# Altium schematic symbol library Resistors.SchLib: 55 symbols
Pins are listed as number, name and electrical type; pins without a type are passive.

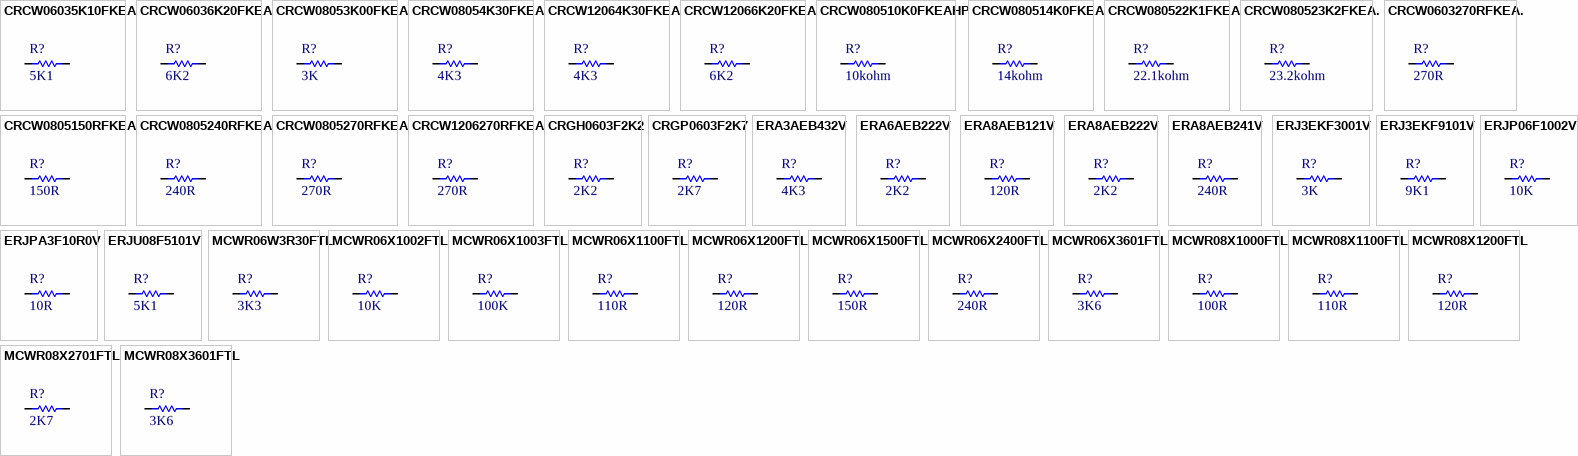
[diagram p0: symbols CRCW06035K10FKEA to MCWR08X3601FTL]

## CRCW06035K10FKEA
designator R?, comment 5K1
RES 5K1, ±1%, 100mW, 75V, 0603 [1608 Metric], Thick Film; Manufacturer: VISHAY; Manufacturer Part Number: CRCW06035K10FKEA; Temperature Coefficient: ± 100ppm/K; Value: 5K1; Supplier 1: Farnell; Supplier Part Number 1: 1469819; Tollerance: ± 1%; Power: 100mW; Voltage: 75V; Package: 0603 [1608 Metric]; Part Type: Thick Film; ComponentLink1Description: Datasheet; ComponentLink1URL: http://www.farnell.com/datasheets/2310790.pdf; Mounting: SMD
footprint RESC1608N (Chip Resistor, Body 1.6x0.8mm, IPC Medium Density)
pins: 1, 2
1 alternate drawing of the same symbol

## CRCW06036K20FKEA
designator R?, comment 6K2
RES 6K2, ±1%, 100mW, 75V, 0603 [1608 Metric], Thick Film; Manufacturer: VISHAY; Manufacturer Part Number: CRCW06036K20FKEA; Temperature Coefficient: ± 100ppm/K; Value: 6K2; Supplier 1: Farnell; Supplier Part Number 1: 2138408; Tollerance: ± 1%; Power: 100mW; Voltage: 75V; Package: 0603 [1608 Metric]; Part Type: Thick Film; ComponentLink1Description: Datasheet; ComponentLink1URL: http://www.farnell.com/datasheets/2310790.pdf; Mounting: SMD
footprint RESC1608N (Chip Resistor, Body 1.6x0.8mm, IPC Medium Density)
pins: 1, 2
1 alternate drawing of the same symbol

## CRCW08053K00FKEA
designator R?, comment 3K
RES 3K, ±1%, 125mW, 150V, 0805 [2012 Metric], Thick Film; Manufacturer: VISHAY; Manufacturer Part Number: CRCW08053K00FKEA; Temperature Coefficient: ± 100ppm/K; Value: 3K; Supplier 1: Farnell; Supplier Part Number 1: 1469908; Tollerance: ± 1%; Power: 125mW; Voltage: 150V; Package: 0805 [2012 Metric]; Part Type: Thick Film; ComponentLink1Description: Datasheet; ComponentLink1URL: http://www.farnell.com/datasheets/2310790.pdf; Mounting: SMD
footprint RESC2012N (Chip Resistor, Body 2.0x1.3mm, IPC Medium Density)
pins: 1, 2
1 alternate drawing of the same symbol

## CRCW08054K30FKEA
designator R?, comment 4K3
RES 4K3, ±1%, 125mW, 150V, 0805 [2012 Metric], Thick Film; Manufacturer: VISHAY; Manufacturer Part Number: CRCW08054K30FKEA; Temperature Coefficient: ± 100ppm/K; Value: 4K3; Supplier 1: Farnell; Supplier Part Number 1: 2138959; Tollerance: ± 1%; Power: 125mW; Voltage: 150V; Package: 0805 [2012 Metric]; Part Type: Thick Film; ComponentLink1Description: Datasheet; ComponentLink1URL: http://www.farnell.com/datasheets/2310790.pdf; Mounting: SMD
footprint RESC2012N (Chip Resistor, Body 2.0x1.3mm, IPC Medium Density)
pins: 1, 2
1 alternate drawing of the same symbol

## CRCW12064K30FKEA
designator R?, comment 4K3
RES 4K3, ±1%, 250mW, 200V, 1206 [3216 Metric], Thick Film; Manufacturer: VISHAY; Manufacturer Part Number: CRCW12064K30FKEA; Temperature Coefficient: ± 100ppm/K; Value: 4K3; Supplier 1: Farnell; Supplier Part Number 1: 1653140; Tollerance: ± 1%; Power: 250mW; Voltage: 200V; Package: 1206 [3216 Metric]; Part Type: Thick Film; ComponentLink1Description: Datasheet; ComponentLink1URL: http://www.farnell.com/datasheets/2310790.pdf; Mounting: SMD
footprint RESC3216N (Chip Resistor, Body 3.2x1.6mm, IPC Medium Density)
pins: 1, 2
1 alternate drawing of the same symbol

## CRCW12066K20FKEA
designator R?, comment 6K2
RES 6K2, ±1%, 250mW, 200V, 1206 [3216 Metric], Thick Film; Manufacturer: VISHAY; Manufacturer Part Number: CRCW12066K20FKEA; Temperature Coefficient: ± 100ppm/K; Value: 6K2; Supplier 1: Farnell; Supplier Part Number 1: 2139493; Tollerance: ± 1%; Power: 250mW; Voltage: 200V; Package: 1206 [3216 Metric]; Part Type: Thick Film; ComponentLink1Description: Datasheet; ComponentLink1URL: http://www.farnell.com/datasheets/2310790.pdf; Mounting: SMD
footprint RESC3216N (Chip Resistor, Body 3.2x1.6mm, IPC Medium Density)
pins: 1, 2
1 alternate drawing of the same symbol

## CRCW080510K0FKEAHP
designator R?, comment 10kohm
RES 10K, ±1%, 500mW, 150V, 0805 [2012 Metric], Thick Film; Manufacturer: VISHAY; Manufacturer Part Number: CRCW080510K0FKEAHP; Temperature Coefficient: ± 100ppm/K; Value: 10kohm; Supplier 1: Farnell; Supplier Part Number 1: 1738972; Tollerance: ± 1%; Power: 500mW; Voltage: 150V; Package: 0805 [2012 Metric]; ComponentLink1Description: Datasheet; ComponentLink1URL: http://www.farnell.com/datasheets/2339608.pdf; Mounting: SMD
footprint RESC2012N (Chip Resistor, Body 2.0x1.3mm, IPC Medium Density)
pins: 1, 2
1 alternate drawing of the same symbol

## CRCW080514K0FKEA
designator R?, comment 14kohm
RES 14K, ±1%, 125mW, 150V, 0805 [2012 Metric], Thick Film; Manufacturer: VISHAY; Manufacturer Part Number: CRCW080514K0FKEA; Temperature Coefficient: ± 100ppm/K; Value: 14kohm; Supplier 1: Farnell; Supplier Part Number 1: 1469871; Tollerance: ± 1%; Power: 125mW; Voltage: 150V; Package: 0805 [2012 Metric]; ComponentLink1Description: Datasheet; ComponentLink1URL: http://www.farnell.com/datasheets/2310790.pdf; Mounting: SMD
footprint RESC2012N (Chip Resistor, Body 2.0x1.3mm, IPC Medium Density)
pins: 1, 2
1 alternate drawing of the same symbol

## CRCW080522K1FKEA
designator R?, comment 22.1kohm
RES 22.1K, ±1%, 125mW, 150V, 0805 [2012 Metric], Thick Film; Manufacturer: VISHAY; Manufacturer Part Number: CRCW080522K1FKEA; Temperature Coefficient: ± 100ppm/K; Value: 22.1kohm; Supplier 1: Farnell; Supplier Part Number 1: 1469898; Tollerance: ± 1%; Power: 125mW; Voltage: 150V; Package: 0805 [2012 Metric]; ComponentLink1Description: Datasheet; ComponentLink1URL: http://www.farnell.com/datasheets/2310790.pdf; Mounting: SMD
footprint RESC2012N (Chip Resistor, Body 2.0x1.3mm, IPC Medium Density)
pins: 1, 2
1 alternate drawing of the same symbol

## CRCW080523K2FKEA.
designator R?, comment 23.2kohm
RES 23.2K, ±1%, 125mW, 150V, 0805 [2012 Metric], Thick Film; Manufacturer: VISHAY; Manufacturer Part Number: CRCW080523K2FKEA.; Temperature Coefficient: ± 100ppm/K; Value: 23.2kohm; Supplier 1: Farnell; Supplier Part Number 1: 2138985; Tollerance: ± 1%; Power: 125mW; Voltage: 150V; Package: 0805 [2012 Metric]; ComponentLink1Description: Datasheet; ComponentLink1URL: http://www.farnell.com/datasheets/2310790.pdf; Mounting: SMD
footprint RESC2012N (Chip Resistor, Body 2.0x1.3mm, IPC Medium Density)
pins: 1, 2
1 alternate drawing of the same symbol

## CRCW0603270RFKEA.
designator R?, comment 270R
RES 270R, ±1%, 100mW, 75V, 0603 [1608 Metric], Thick Film; Manufacturer: VISHAY; Manufacturer Part Number: CRCW0603270RFKEA.; Temperature Coefficient: ± 100ppm/K; Value: 270R; Supplier 1: Farnell; Supplier Part Number 1: 2141320; Tollerance: ±1%; Power: 100mW; Voltage: 75V; Package: 0603 [1608 Metric]; Part Type: Thick Film; ComponentLink1Description: Datasheet; ComponentLink1URL: http://www.farnell.com/datasheets/2310790.pdf; Mounting: SMD
footprint RESC1608N (Chip Resistor, Body 1.6x0.8mm, IPC Medium Density)
pins: 1, 2
1 alternate drawing of the same symbol

## CRCW0805150RFKEA
designator R?, comment 150R
RES 150R, ±1%, 125mW, 150V, 0805 [2012 Metric], Thick Film; Manufacturer: VISHAY; Manufacturer Part Number: CRCW0805150RFKEA; Temperature Coefficient: ± 100ppm/K; Value: 150R; Supplier 1: Farnell; Supplier Part Number 1: 1469877; Tollerance: ± 1%; Power: 125mW; Voltage: 150V; Package: 0805 [2012 Metric]; Part Type: Thick Film; ComponentLink1Description: Datasheet; ComponentLink1URL: http://www.farnell.com/datasheets/2310790.pdf; Mounting: SMD
footprint RESC2012N (Chip Resistor, Body 2.0x1.3mm, IPC Medium Density)
pins: 1, 2
1 alternate drawing of the same symbol

## CRCW0805240RFKEA
designator R?, comment 240R
RES 240R, ±1%, 125mW, 150V, 0805 [2012 Metric], Thick Film; Manufacturer: VISHAY; Manufacturer Part Number: CRCW0805240RFKEA; Temperature Coefficient: ± 100ppm/K; Value: 240R; Supplier 1: Farnell; Supplier Part Number 1: 1652963; Tollerance: ± 1%; Power: 125mW; Voltage: 150V; Package: 0805 [2012 Metric]; Part Type: Thick Film; ComponentLink1Description: Datasheet; ComponentLink1URL: https://lt.farnell.com/vishay/crcw0805240rfkea/res-240r-1-0-125w-0805-thick-film/dp/1652963; Mounting: SMD
footprint RESC2012N (Chip Resistor, Body 2.0x1.3mm, IPC Medium Density)
pins: 1, 2
1 alternate drawing of the same symbol

## CRCW0805270RFKEA
designator R?, comment 270R
RES 270R, ±1%, 125mW, 150V, 0805 [2012 Metric], Thick Film; Manufacturer: VISHAY; Manufacturer Part Number: CRCW0805270RFKEA; Temperature Coefficient: ± 100ppm/K; Value: 270R; Supplier 1: Farnell; Supplier Part Number 1: 1652970; Tollerance: ± 1%; Power: 125mW; Voltage: 150V; Package: 0805 [2012 Metric]; Part Type: Thick Film; ComponentLink1Description: Datasheet; ComponentLink1URL: http://www.farnell.com/datasheets/2310790.pdf; Mounting: SMD
footprint RESC2012N (Chip Resistor, Body 2.0x1.3mm, IPC Medium Density)
pins: 1, 2
1 alternate drawing of the same symbol

## CRCW1206270RFKEA
designator R?, comment 270R
RES 270R, ±1%, 200mW, 200V, 1206 [3216 Metric], Thick Film; Manufacturer: VISHAY; Manufacturer Part Number: CRCW1206270RFKEA; Power: 250mW; Temperature Coefficient: ± 100ppm/K; Value: 270R; Supplier 1: Farnell; Supplier Part Number 1: 1470003; Tollerance: ± 1%; Voltage: 200V; Package: 1206 [3216 Metric]; Part Type: Thick Film; ComponentLink1Description: Datasheet; ComponentLink1URL: http://www.farnell.com/datasheets/2310790.pdf; Mounting: SMD
footprint RESC3216N (Chip Resistor, Body 3.2x1.6mm, IPC Medium Density)
pins: 1, 2
1 alternate drawing of the same symbol

## CRGH0603F2K2
designator R?, comment 2K2
RES 2K2, ±1%, 200mW, 50V, 0603 [1608 Metric], Thick Film; Manufacturer: TE CONNECTIVITY; Manufacturer Part Number: CRGH0603F2K2; Temperature Coefficient: ± 100ppm/°C; Value: 2K2; Supplier 1: Farnell; Supplier Part Number 1: 2332007; Tollerance: ± 1%; Power: 200mW; Voltage: 50V; Package: 0603 [1608 Metric]; Part Type: Thick Film; ComponentLink1Description: Datasheet; ComponentLink1URL: http://www.farnell.com/datasheets/2007183.pdf; Mounting: SMD
footprint RESC1608N (Chip Resistor, Body 1.6x0.8mm, IPC Medium Density)
pins: 1, 2
1 alternate drawing of the same symbol

## CRGP0603F2K7
designator R?, comment 2K7
RES 2K7, ±1%, 250mW, 50V, 0603 [1608 Metric], Thick Film; Manufacturer: TE CONNECTIVITY; Manufacturer Part Number: CRGP0603F2K7; Temperature Coefficient: ± 100ppm/°C; Value: 2K7; Supplier 1: Farnell; Supplier Part Number 1: 2861039; Tollerance: ± 1%; Power: 250mW; Voltage: 50V; Package: 0603 [1608 Metric]; Part Type: Thick Film; ComponentLink1Description: Datasheet; ComponentLink1URL: https://4donline.ihs.com/images/VipMasterIC/IC/TYEL/TYEL-S-A0005460475/TYEL-S-A0005460475-1.pdf?hkey=52A5661711E402568146F3353EA87419; Mounting: SMD
footprint RESC1608N (Chip Resistor, Body 1.6x0.8mm, IPC Medium Density)
pins: 1, 2
1 alternate drawing of the same symbol

## ERA3AEB432V
designator R?, comment 4K3
RES 4K3, ±0.1%, 100mW, 75V, 0603 [1608 Metric], Metal Film (Thin Film); Manufacturer: PANASONIC; Manufacturer Part Number: ERA3AEB432V; Temperature Coefficient: ± 25ppm/°C; Value: 4K3; Supplier 1: Farnell; Supplier Part Number 1: 1670184; Tollerance: ± 0.1%; Power: 100mW; Voltage: 75V; Package: 0603 [1608 Metric]; Part Type: Metal Film (Thin Film); ComponentLink1Description: Datasheet; ComponentLink1URL: http://industrial.panasonic.com/cdbs/www-data/pdf/RDM0000/AOA0000C307.pdf; Mounting: SMD
footprint RESC1608N (Chip Resistor, Body 1.6x0.8mm, IPC Medium Density)
pins: 1, 2
1 alternate drawing of the same symbol

## ERA6AEB222V
designator R?, comment 2K2
RES 2K2, ±0.1%, 125mW, 100V, 0805 [2012 Metric], Thick Film; Manufacturer: PANASONIC; Manufacturer Part Number: ERA6AEB222V; Temperature Coefficient: ± 25ppm/C; Value: 2K2; Supplier 1: Farnell; Supplier Part Number 1: 1577663; Tollerance: ± 0.1%; Power: 125mW; Voltage: 100V; Package: 0805 [2012 Metric]; Part Type: Thick Film; ComponentLink1Description: Datasheet; ComponentLink1URL: http://industrial.panasonic.com/cdbs/www-data/pdf/RDM0000/AOA0000C307.pdf; Mounting: SMD
footprint RESC2012N (Chip Resistor, Body 2.0x1.3mm, IPC Medium Density)
pins: 1, 2
1 alternate drawing of the same symbol

## ERA8AEB121V
designator R?, comment 120R
RES 120R, ±0.1%, 250mW, 1206 [3216 Metric], Metal Film (Thin Film); Manufacturer: PANASONIC; Manufacturer Part Number: ERA8AEB121V; Voltage: 150V; Temperature Coefficient: ± 25ppm/°C; Value: 120R; Supplier 1: Farnell; Supplier Part Number 1: 1841735; Tollerance: ± 0.1%; Power: 250mW; Package: 1206 [3216 Metric]; Part Type: Metal Film (Thin Film); ComponentLink1Description: Datasheet; ComponentLink1URL: https://lt.farnell.com/panasonic/era8aeb121v/res-120r-0-1-0-25w-1206-metal/dp/1841735; Mounting: SMD
footprint RESC3216N (Chip Resistor, Body 3.2x1.6mm, IPC Medium Density)
pins: 1, 2
1 alternate drawing of the same symbol

## ERA8AEB222V
designator R?, comment 2K2
RES 2K2, ±0.1%, 250mW, 150V, 1206 [3216 Metric], Metal Film (Thin Film); Manufacturer: PANASONIC; Manufacturer Part Number: ERA8AEB222V; Temperature Coefficient: ± 25ppm/°C; Value: 2K2; Supplier 1: Farnell; Supplier Part Number 1: 1717747; Tollerance: ± 0.1%; Power: 250mW; Voltage: 150V; Package: 1206 [3216 Metric]; Part Type: Metal Film (Thin Film); ComponentLink1Description: Datasheet; ComponentLink1URL: https://industrial.panasonic.com/cdbs/www-data/pdf/RDM0000/AOA0000C307.pdf; Mounting: SMD
footprint RESC3216N (Chip Resistor, Body 3.2x1.6mm, IPC Medium Density)
pins: 1, 2
1 alternate drawing of the same symbol

## ERA8AEB241V
designator R?, comment 240R
RES 240R, ±0.1%, 250mW, 150V, 1206 [3216 Metric], Metal Film (Thin Film); Manufacturer: PANASONIC; Manufacturer Part Number: ERA8AEB241V; Temperature Coefficient: ± 25ppm/°C; Value: 240R; Supplier 1: Farnell; Supplier Part Number 1: 1841741; Tollerance: ± 0.1%; Power: 250mW; Voltage: 150V; Package: 1206 [3216 Metric]; Part Type: Metal Film (Thin Film); ComponentLink1Description: Datasheet; ComponentLink1URL: https://lt.farnell.com/panasonic/era8aeb241v/res-240r-0-1-0-25w-1206-metal/dp/1841741; Mounting: SMD
footprint RESC3216N (Chip Resistor, Body 3.2x1.6mm, IPC Medium Density)
pins: 1, 2
1 alternate drawing of the same symbol

## ERJ3EKF3001V
designator R?, comment 3K
RES 3K, ±1%, 100mW, 75V, 0603 [1608 Metric], Thick Film; Manufacturer: PANASONIC; Manufacturer Part Number: ERJ3EKF3001V; Temperature Coefficient: ± 100ppm/°C; Value: 3K; Supplier 1: Farnell; Supplier Part Number 1: 2059357; Tollerance: ± 1%; Power: 100mW; Voltage: 75V; Package: 0603 [1608 Metric]; Part Type: Thick Film; ComponentLink1Description: Datasheet; ComponentLink1URL: http://industrial.panasonic.com/cdbs/www-data/pdf/RDA0000/AOA0000C304.pdf; Mounting: SMD
footprint RESC1608N (Chip Resistor, Body 1.6x0.8mm, IPC Medium Density)
pins: 1, 2
1 alternate drawing of the same symbol

## ERJ3EKF9101V
designator R?, comment 9K1
RES 9K1, ±1%, 100mW, 75V, 0603 [1608 Metric], Thick Film; Manufacturer: PANASONIC; Manufacturer Part Number: ERJ3EKF9101V; Temperature Coefficient: ± 100ppm/°C; Value: 9K1; Supplier 1: Farnell; Supplier Part Number 1: 2059404; Tollerance: ± 1%; Power: 100mW; Voltage: 75V; Package: 0603 [1608 Metric]; Part Type: Thick Film; ComponentLink1Description: Datasheet; ComponentLink1URL: http://industrial.panasonic.com/cdbs/www-data/pdf/RDA0000/AOA0000C304.pdf; Mounting: SMD
footprint RESC1608N (Chip Resistor, Body 1.6x0.8mm, IPC Medium Density)
pins: 1, 2
1 alternate drawing of the same symbol

## ERJP06F1002V
designator R?, comment 10K
RES 10K, ±10%, 500mW, 400V, 0805 [2012 Metric], Thick Film; Manufacturer: PANASONIC; Manufacturer Part Number: ERJP06F1002V; Tollerance: ±1%; Temperature Coefficient: ±100ppm/°C; Value: 10K; Supplier 1: Farnell; Supplier Part Number 1: 1750767; Power: 500mW; Voltage: 400V; Package: 0805 [2012 Metric]; Part Type: Thick Film; ComponentLink1Description: Datasheet; ComponentLink1URL: https://lt.farnell.com/panasonic/erjp06f1002v/res-10k-1-0-5w-0805-thick-film/dp/1750767; Mounting: SMD
footprint RESC2012N (Chip Resistor, Body 2.0x1.3mm, IPC Medium Density)
pins: 1, 2
1 alternate drawing of the same symbol

## ERJPA3F10R0V
designator R?, comment 10R
RES 10R, ±1%, 250mW, 150V, 0603 [1608 Metric], Thick Film; Manufacturer: PANASONIC; Manufacturer Part Number: ERJPA3F10R0V; Temperature Coefficient: ±100ppm/°C; Value: 10R; Supplier 1: Farnell; Supplier Part Number 1: 2335834; Tollerance: ±1%; Power: 250mW; Voltage: 150V; Package: 0603 [1608 Metric]; Part Type: Thick Film; ComponentLink1Description: Datasheet; ComponentLink1URL: http://industrial.panasonic.com/cdbs/www-data/pdf/RDO0000/AOA0000C331.pdf; Mounting: SMD
footprint RESC1608N (Footprint not found)
pins: 1, 2
1 alternate drawing of the same symbol

## ERJU08F5101V
designator R?, comment 5K1
RES 5K1, ±1%, 250mW, 200V, 1206 [3216 Metric], Thick Film; Manufacturer: PANASONIC; Manufacturer Part Number: ERJU08F5101V; Temperature Coefficient: ± 100ppm/°C; Value: 5K1; Supplier 1: Farnell; Supplier Part Number 1: 2145668; Tollerance: ± 1%; Power: 250mW; Voltage: 200V; Package: 1206 [3216 Metric]; Part Type: Thick Film; ComponentLink1Description: Datasheet; ComponentLink1URL: http://www.farnell.com/datasheets/2059639.pdf; Mounting: SMD
footprint RESC3216N (Chip Resistor, Body 3.2x1.6mm, IPC Medium Density)
pins: 1, 2
1 alternate drawing of the same symbol

## MCWR06W3R30FTL
designator R?, comment 3K3
RES 3K3, ±1%, 150mW, 75V, 0603 [1608 Metric], Thick Film; Manufacturer: MULTICOMP PRO; Manufacturer Part Number: MCWR06W3R30FTL; Temperature Coefficient: ± 200ppm/°C; Value: 3K3; Supplier 1: Farnell; Supplier Part Number 1: 2447365; Tollerance: ± 1%; Power: 150mW; Voltage: 75V; Package: 0603 [1608 Metric]; Part Type: Thick Film; ComponentLink1Description: Datasheet; ComponentLink1URL: http://www.farnell.com/datasheets/2860681.pdf; Mounting: SMD
footprint RESC1608N (Chip Resistor, Body 1.6x0.8mm, IPC Medium Density)
pins: 1, 2
1 alternate drawing of the same symbol

## MCWR06X1002FTL
designator R?, comment 10K
RES 10K, ±1%, 100mW, 75V, 0603 [1608 Metric], Thick Film; Manufacturer: MULTICOMP PRO; Manufacturer Part Number: MCWR06X1002FTL; Temperature Coefficient: ± 100ppm/°C; Value: 10K; Supplier 1: Farnell; Supplier Part Number 1: 2447230; Tollerance: ± 1%; Power: 100mW; Voltage: 75V; Package: 0603 [1608 Metric]; Part Type: Thick Film; ComponentLink1Description: Datasheet; ComponentLink1URL: https://lt.farnell.com/multicomp/mcwr06x1002ftl/res-10k-1-0-1w-0603-thick-film/dp/2447230; Mounting: SMD
footprint RESC1608N (Chip Resistor, Body 1.6x0.8mm, IPC Medium Density)
pins: 1, 2
1 alternate drawing of the same symbol

## MCWR06X1003FTL
designator R?, comment 100K
RES 100K, ±1%, 125mW, 75V, 0603 [1608 Metric], Thick Film; Manufacturer: MULTICOMP PRO; Manufacturer Part Number: MCWR06X1003FTL; Power: 100mW; Temperature Coefficient: ±100ppm/°C; Value: 100K; Supplier 1: Farnell; Supplier Part Number 1: 2447226; Tollerance: ±1%; Voltage: 75V; Package: 0603 [1608 Metric]; Part Type: Thick Film; ComponentLink1Description: Datasheet; ComponentLink1URL: http://www.farnell.com/datasheets/2860681.pdf; Mounting: SMD
footprint RESC1608N (Chip Resistor, Body 1.6x0.8mm, IPC Medium Density)
pins: 1, 2
1 alternate drawing of the same symbol

## MCWR06X1100FTL
designator R?, comment 110R
RES 110R, ±1%, 100mW, 75V, 0603 [1608 Metric], Thick Film; Manufacturer: MULTICOMP PRO; Manufacturer Part Number: MCWR06X1100FTL; Temperature Coefficient: ± 100ppm/°C; Value: 110R; Supplier 1: Farnell; Supplier Part Number 1: 2447235; Tollerance: ± 1%; Power: 100mW; Voltage: 75V; Package: 0603 [1608 Metric]; Part Type: Thick Film; ComponentLink1Description: Datasheet; ComponentLink1URL: http://www.farnell.com/datasheets/2860681.pdf; Mounting: SMD
footprint RESC1608N (Chip Resistor, Body 1.6x0.8mm, IPC Medium Density)
pins: 1, 2
1 alternate drawing of the same symbol

## MCWR06X1200FTL
designator R?, comment 120R
RES 120R, ±1%, 100mW, 0603 [1608 Metric], Thick Film; Manufacturer: FARNELL; Manufacturer Part Number: MCWR06X1200FTL; Voltage: 75V; Temperature Coefficient: ±100ppm/°C; Value: 120R; Supplier 1: Farnell; Supplier Part Number 1: 2447552; Tollerance: ±1%; Power: 100mW; Package: 0603 [1608 Metric]; Part Type: Thick Film; ComponentLink1Description: Datasheet; ComponentLink1URL: https://lt.farnell.com/multicomp/mcwr06x1200ftl/res-120r-1-0-1w-thick-film/dp/2447240; Mounting: SMD
footprint RESC2012N (Chip Resistor, Body 2.0x1.3mm, IPC Medium Density)
pins: 1, 2
1 alternate drawing of the same symbol

## MCWR06X1500FTL
designator R?, comment 150R
RES 150R, ±1%, 100mW, 75V, 0603 [1608 Metric], Thick Film; Manufacturer: MULTICOMP PRO; Manufacturer Part Number: MCWR06X1500FTL; Temperature Coefficient: ± 100ppm/°C; Value: 150R; Supplier 1: Farnell; Supplier Part Number 1: 2447255; Tollerance: ± 1%; Power: 100mW; Voltage: 75V; Package: 0603 [1608 Metric]; Part Type: Thick Film; ComponentLink1Description: Datasheet; ComponentLink1URL: http://www.farnell.com/datasheets/2860681.pdf; Mounting: SMD
footprint RESC1608N (Chip Resistor, Body 1.6x0.8mm, IPC Medium Density)
pins: 1, 2
1 alternate drawing of the same symbol

## MCWR06X2400FTL
designator R?, comment 240R
RES 240R, ±1%, 100mW, 75V, 0603 [1608 Metric], Thick Film; Manufacturer: MULTICOMP PRO; Manufacturer Part Number: MCWR06X2400FTL; Temperature Coefficient: ± 100ppm/°C; Value: 240R; Supplier 1: Farnell; Supplier Part Number 1: 2447305; Tollerance: ± 1%; Power: 100mW; Voltage: 75V; Package: 0603 [1608 Metric]; Part Type: Thick Film; ComponentLink1Description: Datasheet; ComponentLink1URL: https://lt.farnell.com/multicomp/mcwr06x2400ftl/res-240r-1-0-1w-thick-film/dp/2447305; Mounting: SMD
footprint RESC1608N (Chip Resistor, Body 1.6x0.8mm, IPC Medium Density)
pins: 1, 2
1 alternate drawing of the same symbol

## MCWR06X3601FTL
designator R?, comment 3K6
RES 3K6, ±1%, 100mW, 75V, 0603 [1608 Metric], Thick Film; Manufacturer: MULTICOMP PRO; Manufacturer Part Number: MCWR06X3601FTL; Temperature Coefficient: ± 100ppm/°C; Value: 3K6; Supplier 1: Farnell; Supplier Part Number 1: 2447362; Tollerance: ± 1%; Power: 100mW; Voltage: 75V; Package: 0603 [1608 Metric]; Part Type: Thick Film; ComponentLink1Description: Datasheet; ComponentLink1URL: https://lt.farnell.com/multicomp/mcwr06x3601ftl/res-3k6-1-0-1w-thick-film/dp/2447362; Mounting: SMD
footprint RESC1608N (Chip Resistor, Body 1.6x0.8mm, IPC Medium Density)
pins: 1, 2
1 alternate drawing of the same symbol

## MCWR08X1000FTL
designator R?, comment 100R
RES 100R, ±10%, 125mW, 150V, 0805 [2012 Metric], Thick Film; Manufacturer: MULTICOMP; Manufacturer Part Number: MCWR08X1000FTL; Tollerance: ±1%; Temperature Coefficient: ±100ppm/°C; Value: 100R; Supplier 1: Farnell; Supplier Part Number 1: 2447552; Power: 125mW; Voltage: 150V; Package: 0805 [2012 Metric]; Part Type: Thick Film; ComponentLink1Description: Datasheet; ComponentLink1URL: http://www.farnell.com/datasheets/2860681.pdf; Mounting: SMD
footprint RESC2012N (Chip Resistor, Body 2.0x1.3mm, IPC Medium Density)
pins: 1, 2
1 alternate drawing of the same symbol

## MCWR08X1100FTL
designator R?, comment 110R
RES 110R, ±1%, 125mW, 150V, 0805 [2012 Metric], Thick Film; Manufacturer: MULTICOMP PRO; Manufacturer Part Number: MCWR08X1100FTL; Temperature Coefficient: ± 100ppm/°C; Value: 110R; Supplier 1: Farnell; Supplier Part Number 1: 2447558; Tollerance: ± 1%; Power: 125mW; Voltage: 150V; Package: 0805 [2012 Metric]; Part Type: Thick Film; ComponentLink1Description: Datasheet; ComponentLink1URL: http://www.farnell.com/datasheets/2563624.pdf; Mounting: SMD
footprint RESC2012N (Chip Resistor, Body 2.0x1.3mm, IPC Medium Density)
pins: 1, 2
1 alternate drawing of the same symbol

## MCWR08X1200FTL
designator R?, comment 120R
RES 120R, ±1%, 125mW, 0805 [2012 Metric], Thick Film; Manufacturer: MULTICOMP PRO; Manufacturer Part Number: MCWR08X1200FTL; Voltage: 150V; Temperature Coefficient: ± 100ppm/°C; Value: 120R; Supplier 1: Farnell; Supplier Part Number 1: MCWR08X1200FTL; Tollerance: ± 1%; Power: 125mW; Package: 0805 [2012 Metric]; Part Type: General Purpouse; ComponentLink1Description: Datasheet; ComponentLink1URL: https://lt.farnell.com/multicomp/mcwr08x1200ftl/res-120r-1-0-125w-0805-thick-film/dp/2447561; Mounting: SMD
footprint RESC2012N (Chip Resistor, Body 2.0x1.3mm, IPC Medium Density)
pins: 1, 2
1 alternate drawing of the same symbol

## MCWR08X2701FTL
designator R?, comment 2K7
RES 2K7, ±1%, 125mW, 150V, 0805 [2012 Metric], Thick Film; Manufacturer: MULTICOMP PRO; Manufacturer Part Number: MCWR08X2701FTL; Temperature Coefficient: ± 100ppm/°C; Value: 2K7; Supplier 1: Farnell; Supplier Part Number 1: 2447627; Tollerance: ±1%; Power: 125mW; Voltage: 150V; Package: 0805 [2012 Metric]; Part Type: Thick Film; ComponentLink1Description: Datasheet; ComponentLink1URL: http://www.farnell.com/datasheets/2563624.pdf; Mounting: SMD
footprint RESC2012N (Chip Resistor, Body 2.0x1.3mm, IPC Medium Density)
pins: 1, 2
1 alternate drawing of the same symbol

## MCWR08X3601FTL
designator R?, comment 3K6
RES 3K6, ±1%, 125mW, 0805 [2012 Metric], Thick Film; Manufacturer: MULTICOMP PRO; Manufacturer Part Number: MCWR08X3601FTL; Voltage: 150V; Temperature Coefficient: ± 100ppm/°C; Value: 3K6; Supplier 1: Farnell; Supplier Part Number 1: 2447652; Tollerance: ± 1%; Power: 125mW; Package: 0805 [2012 Metric]; Part Type: General Purpouse; ComponentLink1Description: Datasheet; ComponentLink1URL: https://lt.farnell.com/multicomp/mcwr08x3601ftl/res-3k6-1-0-125w-thick-film/dp/2447652; Mounting: SMD
footprint RESC2012N (Chip Resistor, Body 2.0x1.3mm, IPC Medium Density)
pins: 1, 2
1 alternate drawing of the same symbol

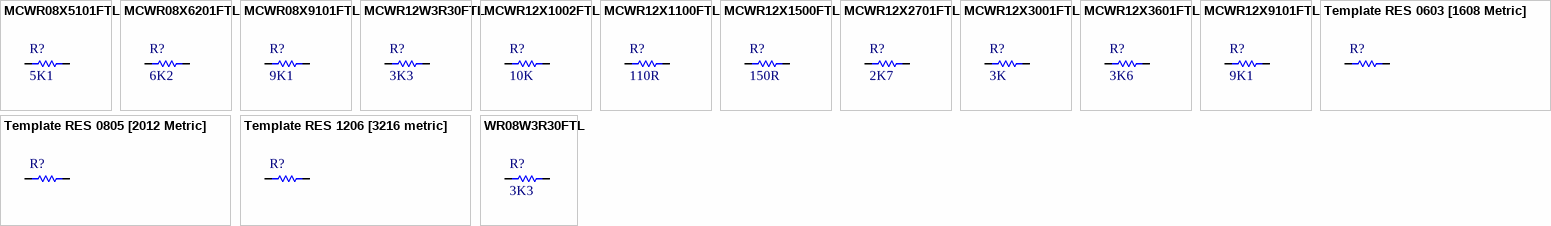
[diagram p1: symbols MCWR08X5101FTL to WR08W3R30FTL]

## MCWR08X5101FTL
designator R?, comment 5K1
RES 5K1, ±1%, 125mW, 0805 [2012 Metric], Thick Film, General Purpose; Manufacturer: MULTICOMP PRO; Manufacturer Part Number: MCWR08X5101FTL; Voltage: 150V; Temperature Coefficient: ± 100ppm/°C; Value: 5K1; Supplier 1: Farnell; Supplier Part Number 1: 2447692; Tollerance: ± 1%; Power: 125mW; Package: 0805 [2012 Metric]; Part Type: General Purpouse; ComponentLink1Description: Datasheet; ComponentLink1URL: http://www.farnell.com/datasheets/2563624.pdf; Mounting: SMD
footprint RESC2012N (Chip Resistor, Body 2.0x1.3mm, IPC Medium Density)
pins: 1, 2
1 alternate drawing of the same symbol

## MCWR08X6201FTL
designator R?, comment 6K2
RES 6K2, ±1%, 125mW, 150V, 0805 [2012 Metric], Thick Film; Manufacturer: MULTICOMP PRO; Manufacturer Part Number: MCWR08X6201FTL; Temperature Coefficient: ± 100ppm/°C; Value: 6K2; Supplier 1: Farnell; Supplier Part Number 1: 2447709; Tollerance: ± 1%; Power: 125mW; Voltage: 150V; Package: 0805 [2012 Metric]; Part Type: Thick Film; ComponentLink1Description: Datasheet; ComponentLink1URL: http://www.farnell.com/datasheets/2563624.pdf; Mounting: SMD
footprint RESC2012N (Chip Resistor, Body 2.0x1.3mm, IPC Medium Density)
pins: 1, 2
1 alternate drawing of the same symbol

## MCWR08X9101FTL
designator R?, comment 9K1
RES 9K1, ±1%, 125mW, 150V, 0805 [2012 Metric], Thick Film; Manufacturer: MULTICOMP PRO; Manufacturer Part Number: MCWR08X9101FTL; Temperature Coefficient: ± 100ppm/°C; Value: 9K1; Supplier 1: Farnell; Supplier Part Number 1: 2447739; Tollerance: ± 1%; Power: 125mW; Voltage: 150V; Package: 0805 [2012 Metric]; Part Type: Thick Film; ComponentLink1Description: Datasheet; ComponentLink1URL: http://www.farnell.com/datasheets/2563624.pdf; Mounting: SMD
footprint RESC2012N (Chip Resistor, Body 2.0x1.3mm, IPC Medium Density)
pins: 1, 2
1 alternate drawing of the same symbol

## MCWR12W3R30FTL
designator R?, comment 3K3
RES 3K3, ±1%, 250mW, 200V, 1206 [3216 Metric], Thick Film; Manufacturer: MULTICOMP PRO; Manufacturer Part Number: MCWR12W3R30FTL; Temperature Coefficient: ± 200ppm/°C; Value: 3K3; Supplier 1: Farnell; Supplier Part Number 1: 2695112; Tollerance: ± 1%; Power: 250mW; Voltage: 200V; Package: 1206 [3216 Metric]; Part Type: Thick Film; ComponentLink1Description: Datasheet; ComponentLink1URL: http://www.farnell.com/datasheets/2189593.pdf; Mounting: SMD
footprint RESC3216N (Chip Resistor, Body 3.2x1.6mm, IPC Medium Density)
pins: 1, 2
1 alternate drawing of the same symbol

## MCWR12X1002FTL
designator R?, comment 10K
RES 10K, ±1%, 250mW, 200V, 1206 [3216 Metric], Thick Film; Manufacturer: MULTICOMP PRO; Manufacturer Part Number: MCWR12X1002FTL; Temperature Coefficient: ± 100ppm/°C; Value: 10K; Supplier 1: Farnell; Supplier Part Number 1: 2447455; Tollerance: ± 1%; Power: 250mW; Voltage: 200V; Package: 1206 [3216 Metric]; Part Type: Thick Film; ComponentLink1Description: Datasheet; ComponentLink1URL: https://lt.farnell.com/multicomp/mcwr12x1002ftl/res-10k-1-0-25w-thick-film/dp/2447455; Mounting: SMD
footprint RESC3216N (Chip Resistor, Body 3.2x1.6mm, IPC Medium Density)
pins: 1, 2
1 alternate drawing of the same symbol

## MCWR12X1100FTL
designator R?, comment 110R
RES 110R, ±1%, 250mW, 200V, 1206 [3216 Metric], Thick Film; Manufacturer: MULTICOMP PRO; Manufacturer Part Number: MCWR12X1100FTL; Temperature Coefficient: ± 100ppm/°C; Value: 110R; Supplier 1: Farnell; Supplier Part Number 1: 2447459; Tollerance: ± 1%; Power: 250mW; Voltage: 200V; Package: 1206 [3216 Metric]; Part Type: Thick Film; ComponentLink1Description: Datasheet; ComponentLink1URL: http://www.farnell.com/datasheets/2563624.pdf; Mounting: SMD
footprint RESC3216N (Chip Resistor, Body 3.2x1.6mm, IPC Medium Density)
pins: 1, 2
1 alternate drawing of the same symbol

## MCWR12X1500FTL
designator R?, comment 150R
RES 150R, ±1%, 250mW, 200V, 1206 [3216 Metric], Thick Film; Manufacturer: MULTICOMP PRO; Manufacturer Part Number: MCWR12X1500FTL; Temperature Coefficient: ± 100ppm/°C; Value: 150R; Supplier 1: Farnell; Supplier Part Number 1: 2447466; Tollerance: ± 1%; Power: 250mW; Voltage: 200V; Package: 1206 [3216 Metric]; Part Type: Thick Film; ComponentLink1Description: Datasheet; ComponentLink1URL: http://www.farnell.com/datasheets/2563624.pdf; Mounting: SMD
footprint RESC3216N (Chip Resistor, Body 3.2x1.6mm, IPC Medium Density)
pins: 1, 2
1 alternate drawing of the same symbol

## MCWR12X2701FTL
designator R?, comment 2K7
RES 2K7, ±1%, 250mW, 200V, 1206 [3216 Metric], Thick Film; Manufacturer: MULTICOMP PRO; Manufacturer Part Number: MCWR12X2701FTL; Temperature Coefficient: ± 100ppm/°C; Value: 2K7; Supplier 1: Farnell; Supplier Part Number 1: 2447497; Tollerance: ± 1%; Power: 250mW; Voltage: 200V; Package: 1206 [3216 Metric]; Part Type: Thick Film; ComponentLink1Description: Datasheet; ComponentLink1URL: http://www.farnell.com/datasheets/2563624.pdf; Mounting: SMD
footprint RESC3216N (Chip Resistor, Body 3.2x1.6mm, IPC Medium Density)
pins: 1, 2
1 alternate drawing of the same symbol

## MCWR12X3001FTL
designator R?, comment 3K
RES 3K, ±1%, 250mW, 200V, 1206 [3216 Metric], Thick Film; Manufacturer: MULTICOMP PRO; Manufacturer Part Number: MCWR12X3001FTL; Temperature Coefficient: ± 100ppm/°C; Value: 3K; Supplier 1: Farnell; Supplier Part Number 1: 2447513; Tollerance: ± 1%; Power: 250mW; Voltage: 200V; Package: 1206 [3216 Metric]; Part Type: Thick Film; ComponentLink1Description: Datasheet; ComponentLink1URL: http://www.farnell.com/datasheets/2563624.pdf; Mounting: SMD
footprint RESC3216N (Chip Resistor, Body 3.2x1.6mm, IPC Medium Density)
pins: 1, 2
1 alternate drawing of the same symbol

## MCWR12X3601FTL
designator R?, comment 3K6
RES 3K6, ±1%, 250mW, 200V, 1206 [3216 Metric], Thick Film; Manufacturer: MULTICOMP PRO; Manufacturer Part Number: MCWR12X3601FTL; Temperature Coefficient: ± 100ppm/°C; Value: 3K6; Supplier 1: Farnell; Supplier Part Number 1: 2447515; Tollerance: ± 1%; Power: 250mW; Voltage: 200V; Package: 1206 [3216 Metric]; Part Type: Thick Film; ComponentLink1Description: Datasheet; ComponentLink1URL: http://www.farnell.com/datasheets/2563624.pdf; Mounting: SMD
footprint RESC3216N (Chip Resistor, Body 3.2x1.6mm, IPC Medium Density)
pins: 1, 2
1 alternate drawing of the same symbol

## MCWR12X9101FTL
designator R?, comment 9K1
RES 9K1, ±1%, 250mW, 200V, 1206 [3216 Metric], Thick Film; Manufacturer: MULTICOMP PRO; Manufacturer Part Number: MCWR12X9101FTL; Temperature Coefficient: ± 100ppm/°C; Value: 9K1; Supplier 1: Farnell; Supplier Part Number 1: 2447549; Tollerance: ± 1%; Power: 250mW; Voltage: 200V; Package: 1206 [3216 Metric]; Part Type: Thick Film; ComponentLink1Description: Datasheet; ComponentLink1URL: http://www.farnell.com/datasheets/2563624.pdf; Mounting: SMD
footprint RESC3216N (Chip Resistor, Body 3.2x1.6mm, IPC Medium Density)
pins: 1, 2
1 alternate drawing of the same symbol

## Template RES 0603 [1608 Metric]
designator R?
RES 1K, ±1%, 125mW, 75V, 0603 [1608 Metric], Thick Film; Power: 100mW; Voltage: 75V; Package: 0603 [1608 Metric]; ComponentLink1Description: Datasheet; Mounting: SMD
footprint RESC1608N (Chip Resistor, Body 1.6x0.8mm, IPC Medium Density)
pins: 1, 2
1 alternate drawing of the same symbol

## Template RES 0805 [2012 Metric]
designator R?
RES 1K, ±1%, 125mW, 150V, 0805 [2012 Metric], Thick Film; Power: 125mW; Voltage: 150V; Package: 0805 [2012 Metric]; ComponentLink1Description: Datasheet; Mounting: SMD
footprint RESC2012N (Chip Resistor, Body 2.0x1.3mm, IPC Medium Density)
pins: 1, 2
1 alternate drawing of the same symbol

## Template RES 1206 [3216 metric]
designator R?
RES 1K, ±1%, 250mW, 200V, 1206 [3216 Metric], Thick Film; Power: 250mW; Voltage: 200V; Package: 1206 [3216 Metric]; ComponentLink1Description: Datasheet; Mounting: SMD
footprint RESC3216N (Chip Resistor, Body 3.2x1.6mm, IPC Medium Density)
pins: 1, 2
1 alternate drawing of the same symbol

## WR08W3R30FTL
designator R?, comment 3K3
RES 3K3, ±1%, 125mW, 150V, 0805 [2012 Metric], Thick Film; Manufacturer: WALSIN; Manufacturer Part Number: WR08W3R30FTL; Temperature Coefficient: ± 200ppm/K; Value: 3K3; Supplier 1: Farnell; Supplier Part Number 1: 2668290; Tollerance: ± 1%; Power: 125mW; Voltage: 150V; Package: 0805 [2012 Metric]; Part Type: Thick Film; ComponentLink1Description: Datasheet; ComponentLink1URL: http://www.farnell.com/datasheets/1960319.pdf; Mounting: SMD
footprint RESC2012N (Chip Resistor, Body 2.0x1.3mm, IPC Medium Density)
pins: 1, 2
1 alternate drawing of the same symbol